# Altium footprint library LDO.PcbLib: 100 footprints (part 7 of 7)
Each footprint in its own frame and in the unit in brackets; x right, y up, seen from the top. Pads: shape width x height; smd on the part's side, far side on the other; paste and mask are expansions set on the pad; w line width, h text height; cw(c..) or ccw(c..) is an arc to the next point about the centre after c.
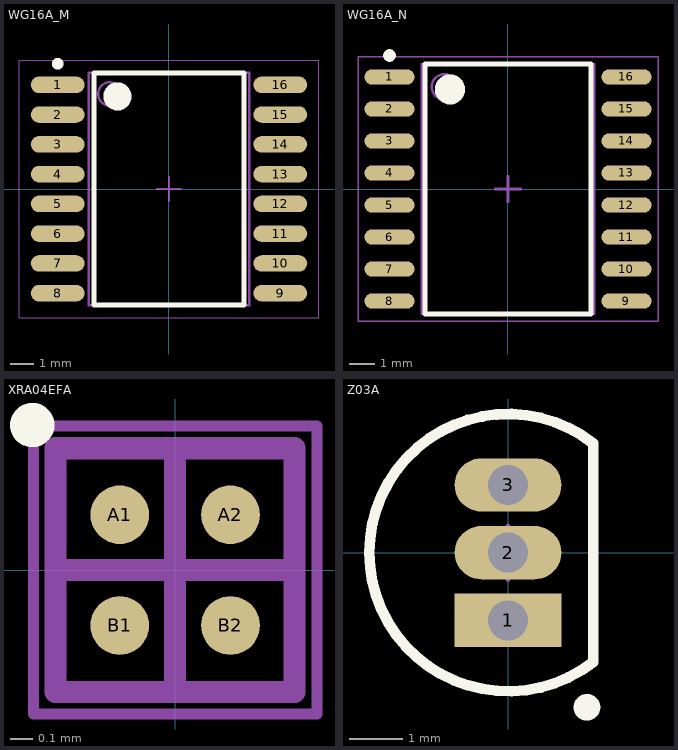
[diagram p6: the footprints below, top view; thin cyan lines are the x and y axes]

## WG16A_M [mm] "CERPACK, 16-Leads, Body 9.9x6.5mm, Pitch 1.27mm, IPC Low Density"
height 2.24
pads (16):
  oval 2.3x0.7 smd: 1(-4.75,4.445) 2(-4.75,3.175) 3(-4.75,1.905) 4(-4.75,0.635) 5(-4.75,-0.635) 6(-4.75,-1.905) 7(-4.75,-3.175) 8(-4.75,-4.445) 9(4.75,-4.445) 10(4.75,-3.175) 11(4.75,-1.905) 12(4.75,-0.635) 13(4.75,0.635) 14(4.75,1.905) 15(4.75,3.175) 16(4.75,4.445)
Top Overlay:
  circle w0.25: c-4.75,5.345 r0.125
  circle w0.6: c-2.2,3.95 r0.3
  lines w0.2: -3.2,-4.95 -3.2,4.95 3.2,4.95 3.2,-4.95 -3.2,-4.95
Mechanical 13:
  circle w0.1: c-2.525,4.055 r0.5
  lines w0.1: -3.425,-4.955 -3.425,4.955 3.425,4.955 3.425,-4.955 -3.425,-4.955
Mechanical 15:
  lines w0.05: -6.4,-5.5 -6.4,5.5 6.4,5.5 6.4,-5.5 -6.4,-5.5
  lines w0.1: -0.5,0 0.5,0 ; 0,-0.5 0,0.5
3D body: height 2.24, standoff 0.1, extent -3.425,-4.955 3.425,4.955

## WG16A_N [mm] "CERPACK, 16-Leads, Body 9.9x6.5mm, Pitch 1.27mm, IPC Medium Density"
height 2.24
pads (16):
  oval 2x0.6 smd: 1(-4.7,4.445) 2(-4.7,3.175) 3(-4.7,1.905) 4(-4.7,0.635) 5(-4.7,-0.635) 6(-4.7,-1.905) 7(-4.7,-3.175) 8(-4.7,-4.445) 9(4.7,-4.445) 10(4.7,-3.175) 11(4.7,-1.905) 12(4.7,-0.635) 13(4.7,0.635) 14(4.7,1.905) 15(4.7,3.175) 16(4.7,4.445)
Top Overlay:
  circle w0.25: c-4.7,5.295 r0.125
  circle w0.6: c-2.3,3.95 r0.3
  lines w0.2: -3.3,-4.95 -3.3,4.95 3.3,4.95 3.3,-4.95 -3.3,-4.95
Mechanical 13:
  circle w0.1: c-2.525,4.055 r0.5
  lines w0.1: -3.425,-4.955 -3.425,4.955 3.425,4.955 3.425,-4.955 -3.425,-4.955
Mechanical 15:
  lines w0.05: -5.95,-5.25 -5.95,5.25 5.95,5.25 5.95,-5.25 -5.95,-5.25
  lines w0.1: -0.5,0 0.5,0 ; 0,-0.5 0,0.5
3D body: height 2.24, standoff 0.1, extent -3.425,-4.955 3.425,4.955

## XRA04EFA [mm] "Micro SMD, 4-Leads, Body 1.1x1.08mm, Pitch 0.5mm, NSC Recommended"
height 0.3
pads (4):
  round 0.265 smd paste-0.132 mask+0.05: A1(-0.25,0.25) A2(0.25,0.25) B1(-0.25,-0.25) B2(0.25,-0.25)
Top Overlay:
  circle w0.1: c-0.645,0.655 r0.05
Top Paste:
  circle w0.05: c-0.325,0.175 r0.025
  circle w0.05: c-0.175,0.325 r0.025
  circle w0.05: c-0.175,0.175 r0.025
  circle w0.05: c-0.325,0.325 r0.025
  circle w0.05: c0.175,0.175 r0.025
  circle w0.05: c0.325,0.325 r0.025
  circle w0.05: c0.325,0.175 r0.025
  circle w0.05: c0.175,0.325 r0.025
  circle w0.05: c-0.325,-0.325 r0.025
  circle w0.05: c-0.175,-0.175 r0.025
  circle w0.05: c-0.175,-0.325 r0.025
  circle w0.05: c-0.325,-0.175 r0.025
  circle w0.05: c0.175,-0.325 r0.025
  circle w0.05: c0.325,-0.175 r0.025
  circle w0.05: c0.325,-0.325 r0.025
  circle w0.05: c0.175,-0.175 r0.025
  region: -0.325,0.325 -0.325,0.175 -0.175,0.175 -0.175,0.325
  region: -0.325,0.175 -0.325,0.325 -0.375,0.325 -0.375,0.175
  rectangle: -0.325,0.325 -0.175,0.375
  region: -0.175,0.325 -0.175,0.175 -0.125,0.175 -0.125,0.325
  region: -0.175,0.175 -0.325,0.175 -0.325,0.125 -0.175,0.125
  region: 0.175,0.325 0.175,0.175 0.325,0.175 0.325,0.325
  region: 0.175,0.175 0.175,0.325 0.125,0.325 0.125,0.175
  rectangle: 0.175,0.325 0.325,0.375
  region: 0.325,0.325 0.325,0.175 0.375,0.175 0.375,0.325
  region: 0.325,0.175 0.175,0.175 0.175,0.125 0.325,0.125
  region: -0.325,-0.175 -0.325,-0.325 -0.175,-0.325 -0.175,-0.175
  region: -0.325,-0.325 -0.325,-0.175 -0.375,-0.175 -0.375,-0.325
  rectangle: -0.325,-0.175 -0.175,-0.125
  region: -0.175,-0.175 -0.175,-0.325 -0.125,-0.325 -0.125,-0.175
  region: -0.175,-0.325 -0.325,-0.325 -0.325,-0.375 -0.175,-0.375
  region: 0.175,-0.175 0.175,-0.325 0.325,-0.325 0.325,-0.175
  region: 0.175,-0.325 0.175,-0.175 0.125,-0.175 0.125,-0.325
  rectangle: 0.175,-0.175 0.325,-0.125
  region: 0.325,-0.175 0.325,-0.325 0.375,-0.325 0.375,-0.175
  region: 0.325,-0.325 0.175,-0.325 0.175,-0.375 0.325,-0.375
Mechanical 13:
  lines w0.1: -0.54,-0.55 -0.54,0.55 0.54,0.55 0.54,-0.55 -0.54,-0.55
Mechanical 15:
  lines w0.05: -0.64,-0.65 -0.64,0.65 0.64,0.65 0.64,-0.65 -0.64,-0.65
  lines w0.1: -0.5,0 0.5,0 ; 0,-0.5 0,0.5
3D body: height 0.3, standoff 0, extent -0.54,-0.55 0.54,0.55

## Z03A [mm] "TO, Flat Index; 3 In-Line, Axial Leads; Body Dia. 5mm; Leads 0.55 x 0.50 mm (max)"
height 5.2
pads (3):
  rect 2x1 hole 0.75: 1(0,-1.27)
  oval 2x1 hole 0.75: 2(0,0) 3(0,1.27)
Top Overlay:
  circle w0.25: c1.48,-2.9 r0.125
  lines w0.2: 1.601,-2.049 cw(c0,0) 1.601,2.049 1.6,-2.049
Mechanical 13:
  lines w0.1: 1.601,-2.049 cw(c0,0) 1.601,2.049 1.6,-2.049
Mechanical 15:
  lines w0.1: -0.5,0 0.5,0 ; 0,-0.5 0,0.5
3D body: height 5.2, standoff 0, extent -2.599,-2.611 1.6,2.611